# EAGLE library part 9PIN-RESISTOR-NETWORK (library 9 pin resistor network)
9 pin, standard resistor network
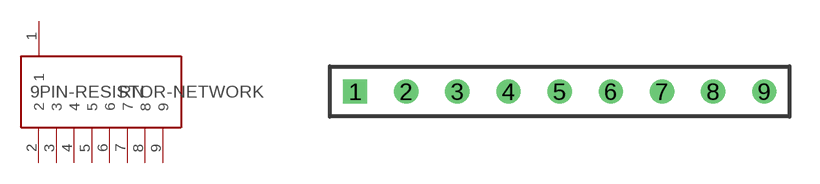
[diagram p0: symbol with the pads of 9PIN-RESISTOR-NETWORK; footprint 9PIN-RESISTOR-NETWORK]

Designator prefix RN

## 9PIN-RESISTOR-NETWORK9PIN-RESISTOR-NETWORK (HEIGHT: mm)  [9PIN-RESISTOR-NETWORK]
1  1
2  2
3  3
4  4
5  5
6  6
7  7
8  8
9  9

## Footprint 9PIN-RESISTOR-NETWORK (pad centres in mm)
9pin-resistor-network
drill 0.7 square: 1 0,0
drill 0.7: 2 2.54,0; 3 5.08,0; 4 7.62,0; 5 10.16,0; 6 12.7,0; 7 15.24,0; 8 17.78,0; 9 20.32,0